# Altium footprint library CHXXX.pcblib: 155 footprints (part 1 of 10)
Each footprint in its own frame and in the unit in brackets; x right, y up, seen from the top. Pads: shape width x height; smd on the part's side, far side on the other; paste and mask are expansions set on the pad; w line width, h text height; cw(c..) or ccw(c..) is an arc to the next point about the centre after c.
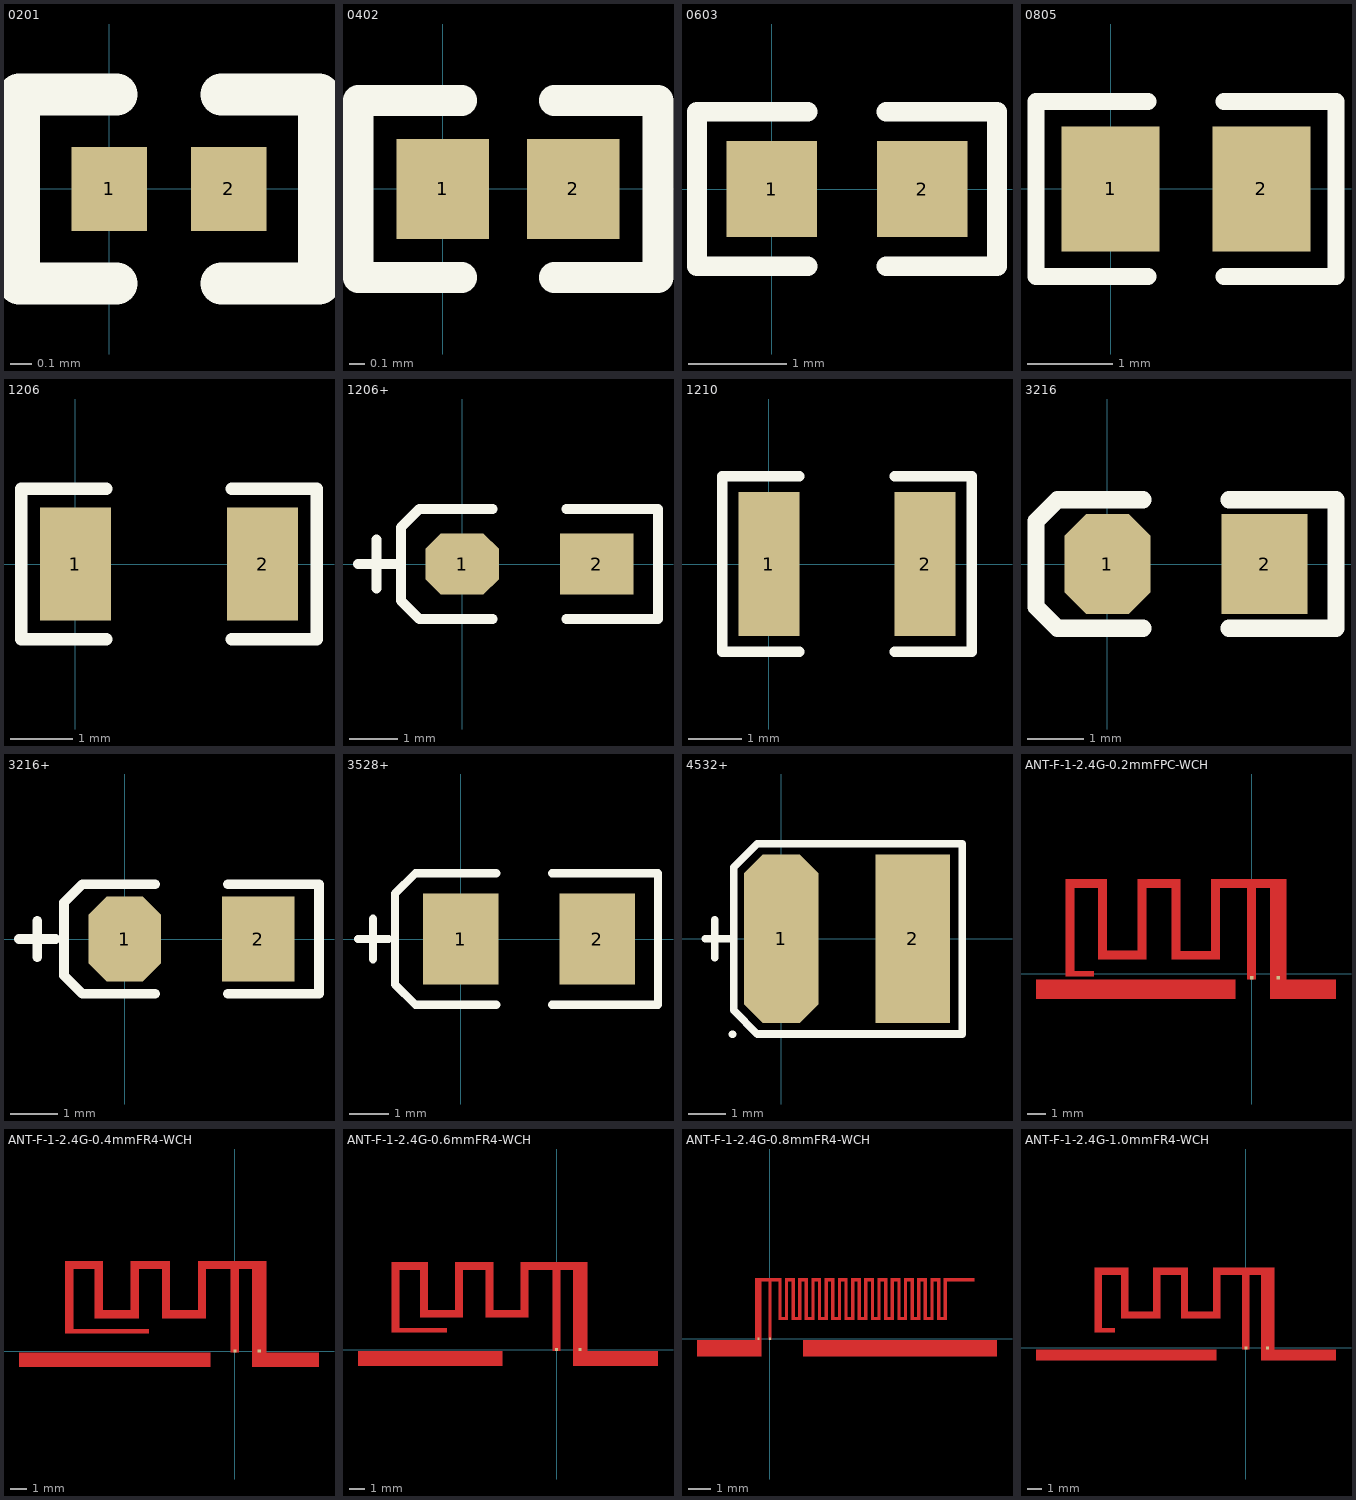
[diagram p0: the footprints below, top view; thin cyan lines are the x and y axes]

## 0201 [mm]
pads (2):
  rect 0.36x0.4 smd mask+0.051: 1(0,0) 2(0.57,0)
TopOverlay:
  lines w0.2: 0.035,-0.45 -0.43,-0.45 -0.43,0.45 0.035,0.45 ; 0.535,-0.45 1,-0.45 1,0.45 0.535,0.45

## 0402 [mm]
pads (2):
  rect 0.6x0.65 smd mask+0.051: 1(0,0) 2(0.85,0)
TopOverlay:
  lines w0.2: 0.125,-0.575 -0.55,-0.575 -0.55,0.575 0.125,0.575 ; 0.725,-0.575 1.4,-0.575 1.4,0.575 0.725,0.575

## 0603 [mm]
pads (2):
  rect 0.93x0.98 smd: 1(0,0) 2(1.54,0)
TopOverlay:
  lines w0.2: 0.37,-0.79 -0.765,-0.79 -0.765,0.79 0.37,0.79 ; 1.17,-0.79 2.305,-0.79 2.305,0.79 1.17,0.79

## 0805 [mm]
pads (2):
  rect 1.16x1.47 smd: 1(0,0) 2(1.78,0)
TopOverlay:
  lines w0.2: 0.44,-1.035 -0.88,-1.035 -0.88,1.035 0.44,1.035 ; 1.34,-1.035 2.66,-1.035 2.66,1.035 1.34,1.035

## 1206 [mm]
pads (2):
  rect 1.13x1.8 smd: 1(0,0) 2(2.98,0)
TopOverlay:
  lines w0.2: 0.49,-1.2 -0.865,-1.2 -0.865,1.2 0.49,1.2 ; 2.49,-1.2 3.845,-1.2 3.845,1.2 2.49,1.2

## 1206+ [mil]
pads (2):
  oct 60x50 smd: 1(0,0)
  rect 60x50 smd: 2(110,0)
TopOverlay:
  lines w8: -85,0 -50,0 ; -70,-20 -70,20 ; 25,-45 -35,-45 -50,-30 -50,30 -35,45 25,45 ; 85,-45 160,-45 160,45 85,45

## 1210 [mm]
pads (2):
  rect 1.16x2.72 smd: 1(0,0) 2(2.95,0)
TopOverlay:
  lines w0.2: 0.575,-1.66 -0.88,-1.66 -0.88,1.66 0.575,1.66 ; 2.375,-1.66 3.83,-1.66 3.83,1.66 2.375,1.66

## 3216 [mil]
pads (2):
  oct 60x70 smd: 1(0,0)
  rect 60x70 smd: 2(110,0)
TopOverlay:
  lines w12: 25,-45 -35,-45 -50,-30 -50,30 -35,45 25,45 ; 85,-45 160,-45 160,45 85,45

## 3216+ [mil]
pads (2):
  oct 60x70 smd: 1(0,0)
  rect 60x70 smd: 2(110,0)
TopOverlay:
  lines w8: -87.09,0 -57.09,0 ; -71.97,-15 -71.97,15 ; 25,-45 -35,-45 -50,-30 -50,30 -35,45 25,45 ; 85,-45 160,-45 160,45 85,45

## 3528+ [mil]
pads (2):
  rect 75x90 smd: 1(0,0) 2(135,0)
TopOverlay:
  lines w8: -101.69,0 -71.69,0 ; -86.97,-20 -86.97,20 ; 35,-65 -45,-65 -65,-45 -65,45 -45,65 35,65 ; 90,-65 195,-65 195,65 90,65

## 4532+ [mil]
pads (2):
  oct 78x177 smd: 1(0,0)
  rect 78x177 smd: 2(138,0)
TopOverlay:
  lines w8: -80,0 -50,0 ; -70,-20 -70,20 ; -51.18,-100.39 -51.18,-100.39 ; -50,-75 -25,-100 190,-100 190,100 -25,100 -50,75 -50,-75

## ANT-F-1-2.4G-0.2mmFPC-WCH [mm]
pads (2):
  rect 0.2x0.2 smd mask+0: 0(1.483,-0.204) 1(0,-0.204)
TopLayer:
  rectangle: -12,-1.4 -0.9,-0.304
  rectangle: 1.04,-1.4 4.7,-0.304
  rectangle: -10.36,-0.144 -8.76,0.156
  region: 0.24,5.027 -0.26,5.027 -0.26,-0.304 0.24,-0.304
  region: 1.94,5.296 1.04,5.296 1.04,-0.304 1.94,-0.304
  region: 1.94,5.296 -2.26,5.296 -2.26,4.796 1.94,4.796
  region: -1.76,5.296 -2.26,5.296 -2.26,0.796 -1.76,0.796
  region: -1.76,1.291 -4.46,1.291 -4.46,0.796 -1.76,0.796
  region: -3.96,5.296 -4.46,5.296 -4.46,0.796 -3.96,0.796
  region: -3.96,5.296 -6.36,5.296 -6.36,4.796 -3.96,4.796
  region: -5.86,5.296 -6.36,5.296 -6.36,0.796 -5.86,0.796
  region: -5.86,1.296 -8.56,1.296 -8.56,0.796 -5.86,0.796
  region: -8.06,5.296 -8.56,5.296 -8.56,0.796 -8.06,0.796
  region: -8.06,5.296 -10.36,5.296 -10.36,4.796 -8.06,4.796
  region: -9.86,5.296 -10.36,5.296 -10.36,-0.144 -9.86,-0.144
Mechanical13:
  text "适用FPC板材，0.2mm板厚，封装未开窗，建议天线开窗。技术咨询 tech@wch.cn" at -10.335,-3.328 h0.4
  text "GND" at 1.106,-1.729 h0.89
  text "GND" at -9.2,-1.729 h0.89

## ANT-F-1-2.4G-0.4mmFR4-WCH [mm]
pads (2):
  rect 0.2x0.2 smd mask+0: 0(1.483,0) 1(0,0)
TopLayer:
  rectangle: -13.183,-0.974 -1.488,-0.1
  rectangle: 1.04,-0.974 5.134,-0.1
  region: -9.86,5.18 -10.36,5.18 -10.36,1.06 -9.86,1.06
  region: -8.06,5.5 -10.36,5.5 -10.36,5 -8.06,5
  region: -8.06,5.18 -8.56,5.18 -8.56,2 -8.06,2
  region: -5.875,2.5 -8.364,2.5 -8.364,2 -5.875,2
  region: -5.86,5.18 -6.36,5.18 -6.36,2 -5.86,2
  region: -3.96,5.5 -6.36,5.5 -6.36,5 -3.96,5
  region: -3.96,5.18 -4.46,5.18 -4.46,2 -3.96,2
  region: -1.85,2.5 -4.39,2.5 -4.39,2 -1.85,2
  region: -1.76,5.18 -2.26,5.18 -2.26,2 -1.76,2
  region: 1.94,5.5 -2.26,5.5 -2.26,5 1.94,5
  region: 1.94,5.205 1.04,5.205 1.04,-0.1 1.94,-0.1
  region: 0.24,5.231 -0.26,5.231 -0.26,-0.1 0.24,-0.1
  region: -5.26,1.36 -10.36,1.36 -10.36,1.06 -5.26,1.06
Mechanical13:
  text "适用FR4板材，0.4mm板厚，封装未开窗，建议天线开窗。技术咨询 tech@wch.cn" at -10.901,-4.729 h0.4
  text "GND" at -9.2,-1.525 h0.89
  text "GND" at 1.106,-1.525 h0.89

## ANT-F-1-2.4G-0.6mmFR4-WCH [mm]
pads (2):
  rect 0.2x0.2 smd mask+0: 0(1.483,0) 1(0,0)
TopLayer:
  rectangle: -12.459,-1.031 -3.394,-0.1
  rectangle: 1.04,-1.031 6.37,-0.1
  region: -6.86,1.36 -10.36,1.36 -10.36,1.06 -6.86,1.06
  region: 0.24,5.231 -0.26,5.231 -0.26,-0.1 0.24,-0.1
  region: 1.94,5.205 1.04,5.205 1.04,-0.1 1.94,-0.1
  region: 1.94,5.5 -2.26,5.5 -2.26,5 1.94,5
  region: -1.76,5.18 -2.26,5.18 -2.26,2 -1.76,2
  region: -1.85,2.5 -4.39,2.5 -4.39,2 -1.85,2
  region: -3.96,5.18 -4.46,5.18 -4.46,2 -3.96,2
  region: -3.96,5.5 -6.36,5.5 -6.36,5 -3.96,5
  region: -5.86,5.18 -6.36,5.18 -6.36,2 -5.86,2
  region: -5.875,2.5 -8.364,2.5 -8.364,2 -5.875,2
  region: -8.06,5.18 -8.56,5.18 -8.56,2 -8.06,2
  region: -8.06,5.5 -10.36,5.5 -10.36,5 -8.06,5
  region: -9.86,5.18 -10.36,5.18 -10.36,1.06 -9.86,1.06
Mechanical13:
  text "GND" at -8.615,-1.863 h0.89
  text "GND" at 1.692,-1.863 h0.89
  text "适用FR4板材，0.6mm板厚，封装未开窗，建议天线开窗。技术咨询 tech@wch.cn" at -10.533,-5.177 h0.4

## ANT-F-1-2.4G-0.8mmFR4-WCH [mm]
pads (2):
  rect 0.1x0.1 smd mask+0: 0(-0.525,0) 1(0,0)
TopLayer:
  rectangle: -0.675,-0.05 -0.375,2.75
  rectangle: -0.075,-0.05 0.075,2.75
  region: 0.075,2.6 0.075,2.75 -0.675,2.75 -0.675,2.6
  rectangle: 0.375,0.85 0.525,2.75
  rectangle: 0.675,0.85 0.825,2.75
  rectangle: 0.975,0.85 1.125,2.75
  rectangle: 1.275,0.85 1.425,2.75
  rectangle: 1.575,0.85 1.725,2.75
  rectangle: 0.075,2.6 0.525,2.75
  rectangle: 0.675,2.6 1.125,2.75
  rectangle: 1.275,2.6 1.725,2.75
  rectangle: 0.375,0.85 0.825,1
  rectangle: 0.975,0.85 1.425,1
  rectangle: 2.175,0.85 2.625,1
  rectangle: 1.575,0.85 2.025,1
  rectangle: 2.475,2.6 2.925,2.75
  rectangle: 1.875,2.6 2.325,2.75
  rectangle: 2.775,0.85 2.925,2.75
  rectangle: 2.475,0.85 2.625,2.75
  rectangle: 2.175,0.85 2.325,2.75
  rectangle: 1.875,0.85 2.025,2.75
  rectangle: 3.375,0.85 3.825,1
  rectangle: 2.775,0.85 3.225,1
  rectangle: 3.675,2.6 4.125,2.75
  rectangle: 3.075,2.6 3.525,2.75
  rectangle: 3.975,0.85 4.125,2.75
  rectangle: 3.675,0.85 3.825,2.75
  rectangle: 3.375,0.85 3.525,2.75
  rectangle: 3.075,0.85 3.225,2.75
  rectangle: 4.575,0.85 5.025,1
  rectangle: 3.975,0.85 4.425,1
  rectangle: 4.875,2.6 5.325,2.75
  rectangle: 4.275,2.6 4.725,2.75
  rectangle: 5.175,0.85 5.325,2.75
  rectangle: 4.875,0.85 5.025,2.75
  rectangle: 4.575,0.85 4.725,2.75
  rectangle: 4.275,0.85 4.425,2.75
  rectangle: 5.775,0.85 6.225,1
  rectangle: 5.175,0.85 5.625,1
  rectangle: 6.075,2.6 6.525,2.75
  rectangle: 5.475,2.6 5.925,2.75
  rectangle: 6.375,0.85 6.525,2.75
  rectangle: 6.075,0.85 6.225,2.75
  rectangle: 5.775,0.85 5.925,2.75
  rectangle: 5.475,0.85 5.625,2.75
  rectangle: 6.975,0.85 7.425,1
  rectangle: 6.375,0.85 6.825,1
  rectangle: 7.275,2.6 7.725,2.75
  rectangle: 6.675,2.6 7.125,2.75
  rectangle: 7.575,0.85 7.725,2.75
  rectangle: 7.275,0.85 7.425,2.75
  rectangle: 6.975,0.85 7.125,2.75
  rectangle: 6.675,0.85 6.825,2.75
  rectangle: 7.575,0.85 8.025,1
  rectangle: 7.875,2.6 9.275,2.75
  rectangle: 7.875,0.85 8.025,2.75
  rectangle: 1.506,-0.797 10.3,-0.05
  rectangle: -3.312,-0.797 -0.375,-0.05
Mechanical13:
  text "GND" at 6.07,-1.419 h0.89
  text "GND" at -3.175,-1.419 h0.89
  text "适用FR4板材，0.8mm板厚，封装未开窗，建议天线开窗。技术咨询 tech@wch.cn" at -2.978,-4.128 h0.4

## ANT-F-1-2.4G-1.0mmFR4-WCH [mm]
pads (2):
  rect 0.2x0.2 smd mask+0: 0(1.483,0) 1(0,0)
TopLayer:
  region: -9.86,5.18 -10.36,5.18 -10.36,1.06 -9.86,1.06
  region: -8.06,5.5 -10.36,5.5 -10.36,5 -8.06,5
  region: -8.06,5.18 -8.56,5.18 -8.56,2 -8.06,2
  region: -5.875,2.5 -8.364,2.5 -8.364,2 -5.875,2
  region: -5.86,5.18 -6.36,5.18 -6.36,2 -5.86,2
  region: -3.96,5.5 -6.36,5.5 -6.36,5 -3.96,5
  region: -3.96,5.18 -4.46,5.18 -4.46,2 -3.96,2
  region: -1.85,2.5 -4.39,2.5 -4.39,2 -1.85,2
  region: -1.76,5.18 -2.26,5.18 -2.26,2 -1.76,2
  region: 1.94,5.5 -2.26,5.5 -2.26,5 1.94,5
  region: 1.94,5.205 1.04,5.205 1.04,-0.1 1.94,-0.1
  region: 0.24,5.231 -0.26,5.231 -0.26,-0.1 0.24,-0.1
  region: -8.96,1.36 -10.36,1.36 -10.36,1.06 -8.96,1.06
  rectangle: -14.378,-0.863 -2.035,-0.1
  rectangle: 1.04,-0.863 6.163,-0.1
Mechanical13:
  text "GND" at -8.427,-1.447 h0.89
  text "GND" at 1.88,-1.447 h0.89
  text "适用FR4板材，1.0mm板厚，封装未开窗，建议天线开窗。技术咨询 tech@wch.cn" at -10.487,-4.419 h0.4